# Altium schematic symbol library JTK3024S05.SchLib: 1 symbol
Pins are listed as number, name and electrical type; pins without a type are passive.

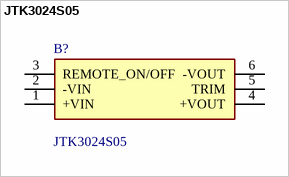
[diagram p0: symbol JTK3024S05]

## JTK3024S05
designator B?
Isolated DC/DC Converters DC-DC CONV, 30W, 4:1 INPUT, 1x1"; Manufacturer_Name: XP POWER; Geometry.Height: 11.4mm; Manufacturer_Part_Number: JTK3024S05; Mouser Part Number: 209-JTK3024S05; Mouser Price/Stock: https://www.mouser.co.uk/ProductDetail/XP-Power/JTK3024S05?qs=w%2Fv1CP2dgqqxIYwZs8wWyg%3D%3D; Arrow Part Number: *; Arrow Price/Stock: *; Datasheet Link: https://www.xppower.com/Portals/0/pdfs/SF_JTK30.pdf
footprint JTK3024S05
pins: 1 +VIN, 2 -VIN, 3 REMOTE_ON/OFF, 4 +VOUT, 5 TRIM, 6 -VOUT